# EAGLE library part 750342158 (library Wurth Electronics Midcom Inc - EAGLE Lib V2-1)
Package Style: EE25/13/7 Mounting: THT Pins: 10 pins Bobbin: 070-2607 Best pinouts for production vary per application. Please contact Wurth Electronics Midcom, Inc. for assistance with your custom design. Website: Wurth Electronics Midcom <http://www.we-online.com/midcom> Contact us Wurth Electronics Midcom, Inc. 121 Airport Dr. Watertown, SD 57201 Phone: (605) 886-4385 Fax: (605) 886-4486 E-Mail: midcom@we-online.com
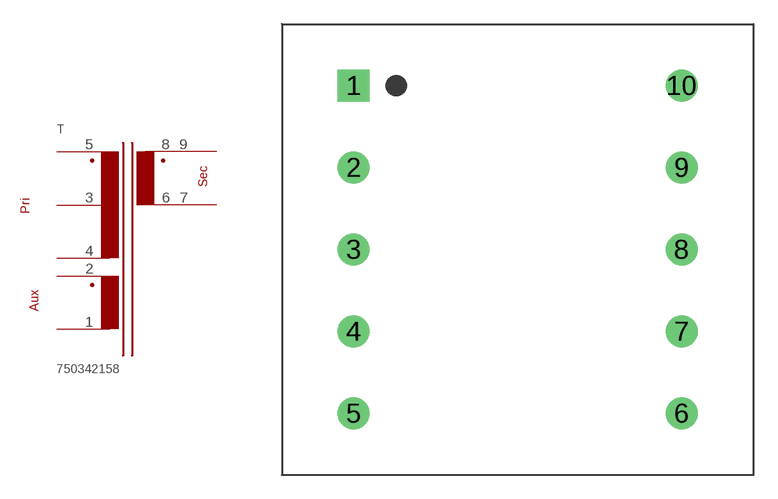
[diagram p81: symbol with the pads of EE25/13/7_THT_H_10PIN_(2607); footprint EE25/13/7_THT_H_10PIN_(2607)]

Designator prefix T

## 750342158  [EE25/13/7_THT_H_10PIN_(2607)]
1  1  pas
2  2  pas
3  3  pas
4  4  pas
5  5  pas
6  6  pas
7  7  pas
8  8  pas
9  9  pas

## Footprint EE25/13/7_THT_H_10PIN_(2607) (pad centres in mm)
Package Style: EE25/13/7 Mounting: THT Pins: 10 Bobbin: 070-2607
drill 1.321 square: 1 -10.16,10.16
drill 1.321: 2 -10.16,5.08; 3 -10.16,0; 4 -10.16,-5.08; 5 -10.16,-10.16; 6 10.16,-10.16; 7 10.16,-5.08; 8 10.16,0; 9 10.16,5.08; 10 10.16,10.16